# EAGLE library part P082N (library pot)
2-GANG POTENTIOMETER P08 Series, BI Technologies
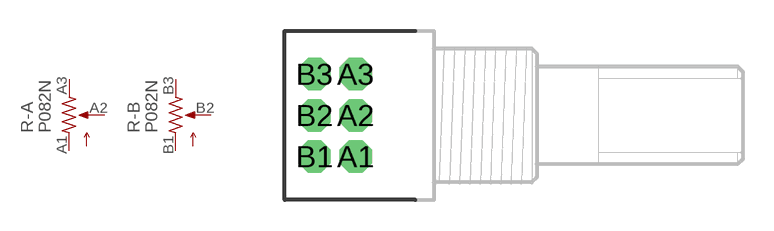
[diagram p6: symbol with the pads of P082N; footprint P082N]

Designator prefix R; gates -A=POT_US- -B=POT_US-

## P082N  [P082N]
A1  -A:1  pas
A2  -A:2  pas
A3  -A:3  pas
B1  -B:1  pas
B2  -B:2  pas
B3  -B:3  pas

## Footprint P082N (pad centres in mm)
2-GANG POTENTIOMETER SINGLE SHAFT P08 Series, BI Technologies
drill 0.813 pad 1.575 octagon: A1 -3.8,-2; A2 -3.8,0; A3 -3.8,2; B1 -5.8,-2; B2 -5.8,0; B3 -5.8,2